# Altium footprint library 电感.PcbLib: 5 footprints
Each footprint in its own frame and in the unit in brackets; x right, y up, seen from the top. Pads: shape width x height; smd on the part's side, far side on the other; paste and mask are expansions set on the pad; w line width, h text height; cw(c..) or ccw(c..) is an arc to the next point about the centre after c.
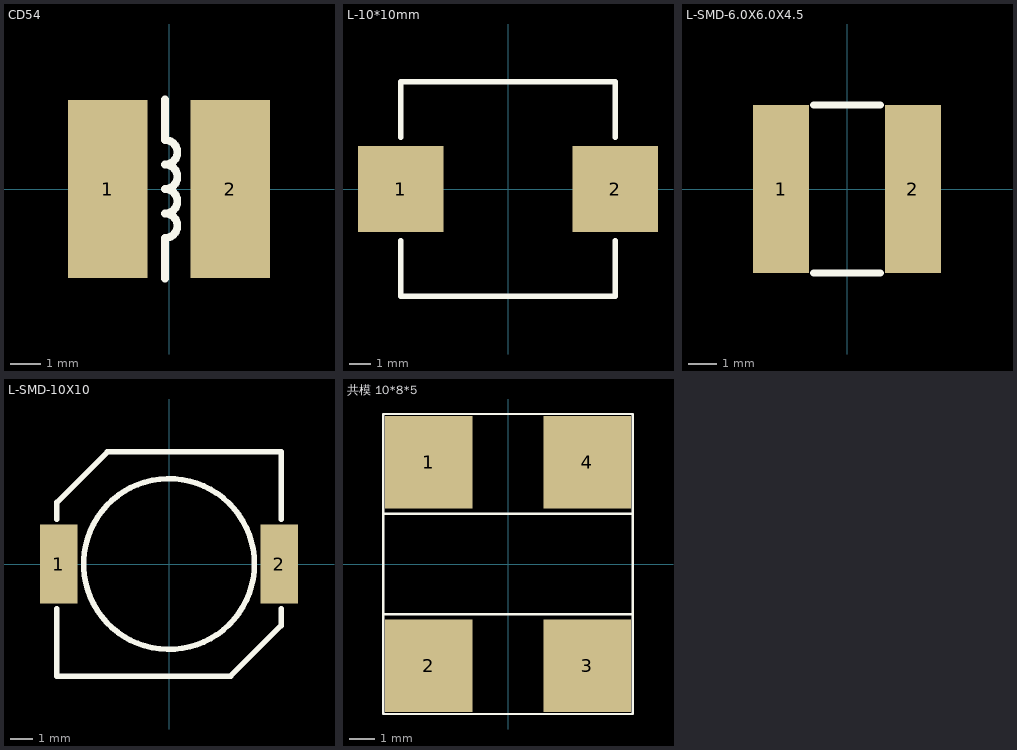
[diagram p0: the footprints below, top view; thin cyan lines are the x and y axes]

## CD54 [mm]
pads (2):
  rect 2.6x5.8 smd: 1(-2,0) 2(2,0)
Top Overlay:
  lines w0.254: -0.127,-2.921 -0.127,-1.6 ccw(c-0.127,-1.2) -0.127,-0.8 ccw(c-0.127,-0.4) -0.127,0 ccw(c-0.127,0.4) -0.127,0.8 ccw(c-0.127,1.2) -0.127,1.6 -0.127,2.921

## L-10*10mm [mm]
pads (2):
  rect 4x4 smd: 1(-5,0) 2(5,0)
Top Overlay:
  lines w0.254: -5,-2.413 -5,-5 5,-5 5,-2.413 ; -5,2.413 -5,5 5,5 5,2.413

## L-SMD-6.0X6.0X4.5 [mm]
pads (2):
  rect 2x6 smd: 1(-2.35,0) 2(2.35,0)
Top Overlay:
  lines w0.254: -1.2,-3 1.2,-3 ; -1.2,3 1.2,3

## L-SMD-10X10 [mm]
pads (2):
  rect 1.7x3.6 smd: 1(-5,0) 2(5,0)
Top Overlay:
  circle w0.254: c0,0 r3.871
  lines w0.254: -5.08,-2.032 -5.08,-5.08 2.794,-5.08 5.08,-2.794 5.08,-2.032 ; -5.08,2.032 -5.08,2.794 -2.794,5.08 5.08,5.08 5.08,2.032

## 共模 10*8*5 [mm]
pads (4):
  rect 3.5x3.7 smd: 1(-3.175,4.064) 2(-3.175,-4.064) 3(3.175,-4.064) 4(3.175,4.064)
Top Overlay:
  lines w0.1: -5,-2 5,-2 ; -5,2 5,2 ; -5,-6 5,-6 5,6 -5,6 -5,-6